# Altium footprint library CONN_HDR_2.54MM_ST.PcbLib: 159 footprints (part 10 of 13)
Each footprint in its own frame and in the unit in brackets; x right, y up, seen from the top. Pads: shape width x height; smd on the part's side, far side on the other; paste and mask are expansions set on the pad; w line width, h text height; cw(c..) or ccw(c..) is an arc to the next point about the centre after c.
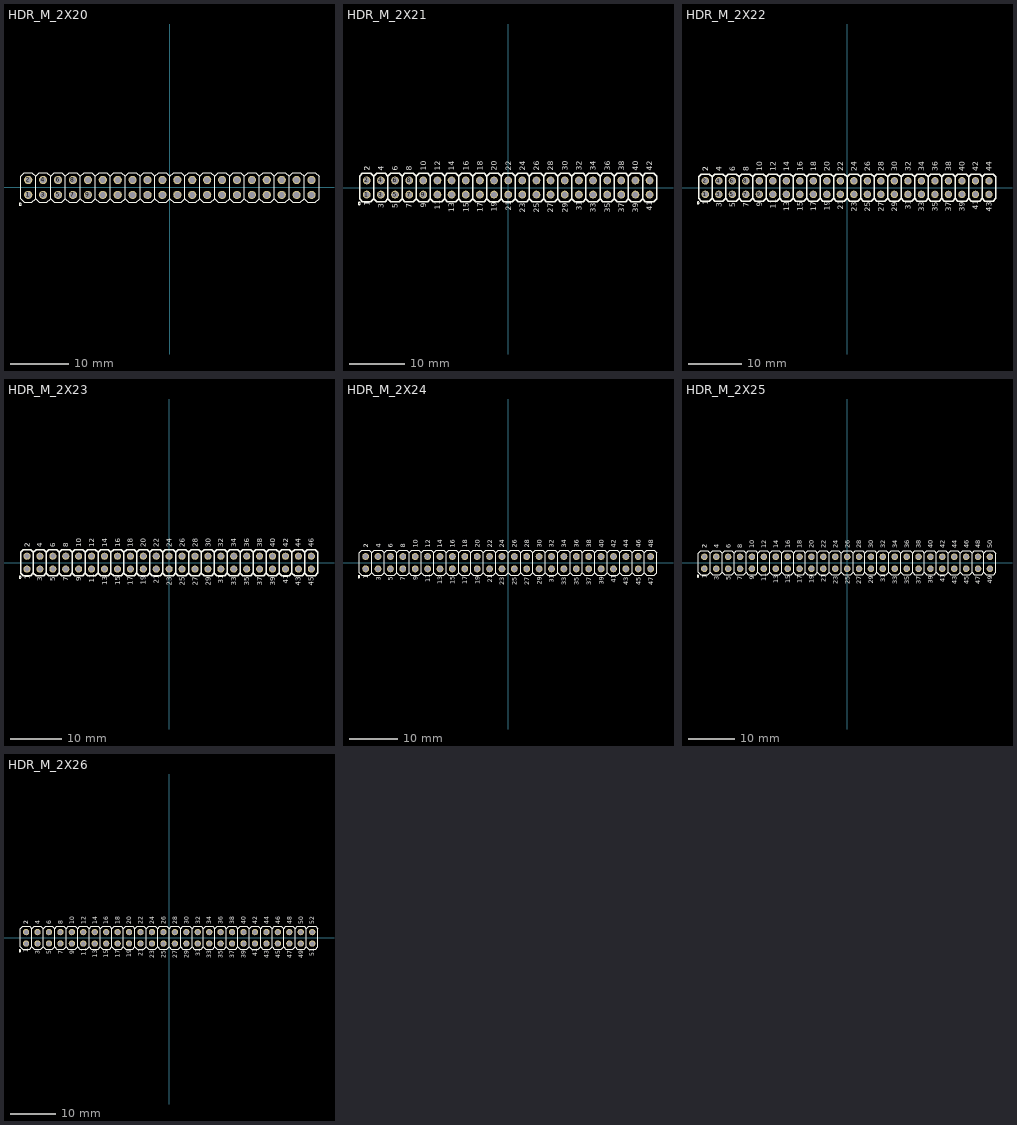
[diagram p9: the footprints below, top view; thin cyan lines are the x and y axes]

## HDR_M_2X20 [mm] "Connector; Header; 20x2 Position"
height 7.5
pads (40):
  round 1.4 / inner round 1.4 / far side oval 1.4x2.2 hole 1: 1(-24.13,-1.27) 2(-24.13,1.27) 3(-21.59,-1.27) 4(-21.59,1.27) 5(-19.05,-1.27) 6(-19.05,1.27) 7(-16.51,-1.27) 8(-16.51,1.27) 9(-13.97,-1.27) 10(-13.97,1.27) 11(-11.43,-1.27) 12(-11.43,1.27) 13(-8.89,-1.27) 14(-8.89,1.27) 15(-6.35,-1.27) 16(-6.35,1.27) 17(-3.81,-1.27) 18(-3.81,1.27) 19(-1.27,-1.27) 20(-1.27,1.27) 21(1.27,-1.27) 22(1.27,1.27) 23(3.81,-1.27) 24(3.81,1.27) 25(6.35,-1.27) 26(6.35,1.27) 27(8.89,-1.27) 28(8.89,1.27) 29(11.43,-1.27) 30(11.43,1.27) 31(13.97,-1.27) 32(13.97,1.27) 33(16.51,-1.27) 34(16.51,1.27) 35(19.05,-1.27) 36(19.05,1.27) 37(21.59,-1.27) 38(21.59,1.27) 39(24.13,-1.27) 40(24.13,1.27)
TopOverlay:
  circle w0.2: c-25.5,-2.87 r0.2
  lines w0.152: -22.86,-1.905 -23.495,-2.54 -24.765,-2.54 -25.4,-1.905 -25.4,1.905 -24.765,2.54 -23.495,2.54 -22.86,1.905 ; -22.86,-1.905 -22.225,-2.54 -20.955,-2.54 -20.32,-1.905 ; -22.86,-1.905 -22.86,1.905 ; -22.86,1.905 -22.225,2.54 -20.955,2.54 -20.32,1.905 ; -20.32,-1.905 -20.32,1.905 ; -20.32,-1.905 -19.685,-2.54 -18.415,-2.54 -17.78,-1.905 ; -20.32,1.905 -19.685,2.54 -18.415,2.54 -17.78,1.905 ; -17.78,-1.905 -17.145,-2.54 -15.875,-2.54 -15.24,-1.905 ; -17.78,-1.905 -17.78,1.905 ; -17.78,1.905 -17.145,2.54 -15.875,2.54 -15.24,1.905 ; -15.24,-1.905 -15.24,1.905 ; -15.24,-1.905 -14.605,-2.54 -13.335,-2.54 -12.7,-1.905 ; -15.24,1.905 -14.605,2.54 -13.335,2.54 -12.7,1.905 ; -12.7,-1.905 -12.065,-2.54 -10.795,-2.54 -10.16,-1.905 ; -12.7,-1.905 -12.7,1.905 ; -12.7,1.905 -12.065,2.54 -10.795,2.54 -10.16,1.905 ; -10.16,-1.905 -10.16,1.905 ; -10.16,-1.905 -9.525,-2.54 -8.255,-2.54 -7.62,-1.905 ; -10.16,1.905 -9.525,2.54 -8.255,2.54 -7.62,1.905 ; -7.62,-1.905 -7.62,1.905 ; -7.62,-1.905 -6.985,-2.54 -5.715,-2.54 -5.08,-1.905 ; -7.62,1.905 -6.985,2.54 -5.715,2.54 -5.08,1.905 ; -5.08,-1.905 -5.08,1.905 ; -5.08,-1.905 -4.445,-2.54 -3.175,-2.54 -2.54,-1.905 ; -5.08,1.905 -4.445,2.54 -3.175,2.54 -2.54,1.905 ; -2.54,-1.905 -2.54,1.905 ; -2.54,-1.905 -1.905,-2.54 -0.635,-2.54 0,-1.905 ; -2.54,1.905 -1.905,2.54 -0.635,2.54 0,1.905 ; 0,-1.905 0.635,-2.54 1.905,-2.54 2.54,-1.905 ; 0,-1.905 0,1.905 ; 0,1.905 0.635,2.54 1.905,2.54 2.54,1.905 ; 2.54,-1.905 2.54,1.905 ; 2.54,-1.905 3.175,-2.54 4.445,-2.54 5.08,-1.905 ; 2.54,1.905 3.175,2.54 4.445,2.54 5.08,1.905 ; 5.08,-1.905 5.715,-2.54 6.985,-2.54 7.62,-1.905 ; 5.08,-1.905 5.08,1.905 ; 5.08,1.905 5.715,2.54 6.985,2.54 7.62,1.905 ; 7.62,-1.905 7.62,1.905 ; 7.62,-1.905 8.255,-2.54 9.525,-2.54 10.16,-1.905 ; 7.62,1.905 8.255,2.54 9.525,2.54 10.16,1.905 ; 10.16,-1.905 10.795,-2.54 12.065,-2.54 12.7,-1.905 ; 10.16,-1.905 10.16,1.905 ; 10.16,1.905 10.795,2.54 12.065,2.54 12.7,1.905 ; 12.7,-1.905 12.7,1.905 ; 12.7,-1.905 13.335,-2.54 14.605,-2.54 15.24,-1.905 ; 12.7,1.905 13.335,2.54 14.605,2.54 15.24,1.905 ; 15.24,-1.905 15.875,-2.54 17.145,-2.54 17.78,-1.905 ; 15.24,-1.905 15.24,1.905 ; 15.24,1.905 15.875,2.54 17.145,2.54 17.78,1.905 ; 17.78,-1.905 18.415,-2.54 19.685,-2.54 20.32,-1.905 ; 17.78,-1.905 17.78,1.905 ; 17.78,1.905 18.415,2.54 19.685,2.54 20.32,1.905 ; 20.32,-1.905 20.32,1.905 ; 20.32,-1.905 20.955,-2.54 22.225,-2.54 22.86,-1.905 ; 20.32,1.905 20.955,2.54 22.225,2.54 22.86,1.905 ; 22.86,-1.905 23.495,-2.54 24.765,-2.54 25.4,-1.905 25.4,1.905 24.765,2.54 23.495,2.54 22.86,1.905 ; 22.86,-1.905 22.86,1.905
3D body "PLD-40.step": height 8.4, standoff -3, extent -25.4,-2.5 25.4,2.5

## HDR_M_2X21 [mm] "Male Header 2X21 with 2.54 mm Pitch"
pads (42):
  round 1.4 / inner round 1.4 / far side oval 1.4x2.2 hole 1: 1(-25.4,-1.27) 2(-25.4,1.27) 3(-22.86,-1.27) 4(-22.86,1.27) 5(-20.32,-1.27) 6(-20.32,1.27) 7(-17.78,-1.27) 8(-17.78,1.27) 9(-15.24,-1.27) 10(-15.24,1.27) 11(-12.7,-1.27) 12(-12.7,1.27) 13(-10.16,-1.27) 14(-10.16,1.27) 15(-7.62,-1.27) 16(-7.62,1.27) 17(-5.08,-1.27) 18(-5.08,1.27) 19(-2.54,-1.27) 20(-2.54,1.27) 21(0,-1.27) 22(0,1.27) 23(2.54,-1.27) 24(2.54,1.27) 25(5.08,-1.27) 26(5.08,1.27) 27(7.62,-1.27) 28(7.62,1.27) 29(10.16,-1.27) 30(10.16,1.27) 31(12.7,-1.27) 32(12.7,1.27) 33(15.24,-1.27) 34(15.24,1.27) 35(17.78,-1.27) 36(17.78,1.27) 37(20.32,-1.27) 38(20.32,1.27) 39(22.86,-1.27) 40(22.86,1.27) 41(25.4,-1.27) 42(25.4,1.27)
TopOverlay:
  circle w0.2: c-26.77,-2.87 r0.2
  lines w0.254: -24.13,-2.032 -23.623,-2.538 -22.098,-2.538 -21.59,-2.03 -21.59,2.034 -21.082,2.542 -19.559,2.542 -19.05,2.032 ; -24.13,2.032 -24.639,2.542 -26.162,2.542 -26.67,2.034 -26.67,-2.032 -26.163,-2.538 -24.638,-2.538 -24.13,-2.03 -24.13,2.034 -23.622,2.542 -22.099,2.542 -21.59,2.032 ; -21.59,-2.032 -21.083,-2.538 -19.558,-2.538 -19.05,-2.03 -19.05,2.034 -18.542,2.542 -17.019,2.542 -16.51,2.032 ; -19.05,-2.032 -18.543,-2.538 -17.018,-2.538 -16.51,-2.03 -16.51,2.034 -16.002,2.542 -14.479,2.542 -13.97,2.032 ; -16.51,-2.032 -16.003,-2.538 -14.478,-2.538 -13.97,-2.03 -13.97,2.034 -13.462,2.542 -11.939,2.542 -11.43,2.032 ; -13.97,-2.032 -13.463,-2.538 -11.938,-2.538 -11.43,-2.03 -11.43,2.034 -10.922,2.542 -9.399,2.542 -8.89,2.032 ; -11.43,-2.032 -10.923,-2.538 -9.398,-2.538 -8.89,-2.03 -8.89,2.034 -8.382,2.542 -6.859,2.542 -6.35,2.032 ; -8.89,-2.032 -8.383,-2.538 -6.858,-2.538 -6.35,-2.03 -6.35,2.034 -5.842,2.542 -4.319,2.542 -3.81,2.032 ; -6.35,-2.032 -5.843,-2.538 -4.318,-2.538 -3.81,-2.03 -3.81,2.034 -3.302,2.542 -1.779,2.542 -1.27,2.032 ; -3.81,-2.032 -3.303,-2.538 -1.778,-2.538 -1.27,-2.03 -1.27,2.034 -0.762,2.542 0.761,2.542 1.27,2.032 ; -1.27,-2.032 -0.763,-2.538 0.762,-2.538 1.27,-2.03 1.27,2.034 1.778,2.542 3.301,2.542 3.81,2.032 ; 1.27,-2.032 1.777,-2.538 3.302,-2.538 3.81,-2.03 3.81,2.034 4.318,2.542 5.841,2.542 6.35,2.032 ; 3.81,-2.032 4.317,-2.538 5.842,-2.538 6.35,-2.03 6.35,2.034 6.858,2.542 8.381,2.542 8.89,2.032 ; 6.35,-2.032 6.857,-2.538 8.382,-2.538 8.89,-2.03 8.89,2.034 9.398,2.542 10.921,2.542 11.43,2.032 ; 8.89,-2.032 9.397,-2.538 10.922,-2.538 11.43,-2.03 11.43,2.034 11.938,2.542 13.461,2.542 13.97,2.032 ; 11.43,-2.032 11.937,-2.538 13.462,-2.538 13.97,-2.03 13.97,2.034 14.478,2.542 16.001,2.542 16.51,2.032 ; 13.97,-2.032 14.477,-2.538 16.002,-2.538 16.51,-2.03 16.51,2.034 17.018,2.542 18.541,2.542 19.05,2.032 ; 16.51,-2.032 17.017,-2.538 18.542,-2.538 19.05,-2.03 19.05,2.034 19.558,2.542 21.081,2.542 21.59,2.032 ; 19.05,-2.032 19.557,-2.538 21.082,-2.538 21.59,-2.03 21.59,2.034 22.098,2.542 23.621,2.542 24.13,2.032 ; 21.59,-2.032 22.097,-2.538 23.622,-2.538 24.13,-2.03 24.13,2.034 24.638,2.542 26.161,2.542 26.67,2.032 ; 24.13,-2.032 24.637,-2.538 26.162,-2.538 26.67,-2.03 26.67,2.034
  text "41" at 25.908,-4.144 h1
  text "42" at 25.908,3.048 h1
  text "39" at 23.368,-4.524 h1
  text "40" at 23.368,3.048 h1
  text "37" at 20.828,-4.572 h1
  text "38" at 20.828,3.048 h1
  text "35" at 18.288,-4.572 h1
  text "36" at 18.288,3.048 h1
  text "33" at 15.748,-4.572 h1
  text "34" at 15.748,3.048 h1
  text "31" at 13.208,-4.144 h1
  text "32" at 13.208,3.048 h1
  text "29" at 10.668,-4.524 h1
  text "30" at 10.668,3.048 h1
  text "27" at 8.128,-4.572 h1
  text "28" at 8.128,3.048 h1
  text "25" at 5.588,-4.572 h1
  text "26" at 5.588,3.048 h1
  text "23" at 3.048,-4.572 h1
  text "24" at 3.048,3.048 h1
  text "21" at 0.508,-4.144 h1
  text "22" at 0.508,3.048 h1
  text "19" at -2.032,-4.367 h1
  text "20" at -2.032,3.048 h1
  text "17" at -4.572,-4.415 h1
  text "18" at -4.572,3.048 h1
  text "15" at -7.112,-4.415 h1
  text "16" at -7.112,3.048 h1
  text "13" at -9.652,-4.415 h1
  text "14" at -9.652,3.048 h1
  text "11" at -12.192,-3.986 h1
  text "12" at -12.192,3.048 h1
  text "9" at -14.732,-3.634 h1
  text "10" at -14.732,3.048 h1
  text "7" at -17.272,-3.682 h1
  text "8" at -17.272,3.048 h1
  text "5" at -19.812,-3.682 h1
  text "6" at -19.812,3.048 h1
  text "3" at -22.352,-3.682 h1
  text "4" at -22.352,3.048 h1
  text "1" at -24.892,-3.253 h1
  text "2" at -24.892,3.048 h1
  text "2" at -24.892,3.048 h1
  text "1" at -24.892,-3.253 h1
3D body "PIN.STEP": height 8.43, standoff -2.49, extent -26.67,0 -24.13,2.54
3D body "PIN_mid.STEP": height 8.43, standoff -2.49, extent 24.13,-2.54 26.67,0
3D body "PIN_mid.STEP": height 8.43, standoff -2.49, extent 21.59,-2.54 24.13,0
3D body "PIN_mid.STEP": height 8.43, standoff -2.49, extent 19.05,-2.54 21.59,0
3D body "PIN_mid.STEP": height 8.43, standoff -2.49, extent 16.51,-2.54 19.05,0
3D body "PIN_mid.STEP": height 8.43, standoff -2.49, extent 13.97,-2.54 16.51,0
3D body "PIN_mid.STEP": height 8.43, standoff -2.49, extent 11.43,-2.54 13.97,0
3D body "PIN_mid.STEP": height 8.43, standoff -2.49, extent 8.89,-2.54 11.43,0
3D body "PIN_mid.STEP": height 8.43, standoff -2.49, extent 6.35,-2.54 8.89,0
3D body "PIN_mid.STEP": height 8.43, standoff -2.49, extent 3.81,-2.54 6.35,0
3D body "PIN_mid.STEP": height 8.43, standoff -2.49, extent 1.27,-2.54 3.81,0
3D body "PIN_mid.STEP": height 8.43, standoff -2.49, extent -1.27,-2.54 1.27,0
3D body "PIN_mid.STEP": height 8.43, standoff -2.49, extent -3.81,-2.54 -1.27,0
3D body "PIN_mid.STEP": height 8.43, standoff -2.49, extent -6.35,-2.54 -3.81,0
3D body "PIN_mid.STEP": height 8.43, standoff -2.49, extent -8.89,-2.54 -6.35,0
3D body "PIN_mid.STEP": height 8.43, standoff -2.49, extent -11.43,-2.54 -8.89,0
3D body "PIN_mid.STEP": height 8.43, standoff -2.49, extent -13.97,-2.54 -11.43,0
3D body "PIN_mid.STEP": height 8.43, standoff -2.49, extent -16.51,-2.54 -13.97,0
3D body "PIN_mid.STEP": height 8.43, standoff -2.49, extent -19.05,-2.54 -16.51,0
3D body "PIN_mid.STEP": height 8.43, standoff -2.49, extent -21.59,-2.54 -19.05,0
3D body "PIN_mid.STEP": height 8.43, standoff -2.49, extent -24.13,-2.54 -21.59,0
3D body "PIN_mid.STEP": height 8.43, standoff -2.49, extent -24.13,0 -21.59,2.54
3D body "PIN_mid.STEP": height 8.43, standoff -2.49, extent 24.13,0 26.67,2.54
3D body "PIN_mid.STEP": height 8.43, standoff -2.49, extent 21.59,0 24.13,2.54
3D body "PIN_mid.STEP": height 8.43, standoff -2.49, extent 19.05,0 21.59,2.54
3D body "PIN_mid.STEP": height 8.43, standoff -2.49, extent 16.51,0 19.05,2.54
3D body "PIN_mid.STEP": height 8.43, standoff -2.49, extent 13.97,0 16.51,2.54
3D body "PIN_mid.STEP": height 8.43, standoff -2.49, extent 11.43,0 13.97,2.54
3D body "PIN_mid.STEP": height 8.43, standoff -2.49, extent 8.89,0 11.43,2.54
3D body "PIN_mid.STEP": height 8.43, standoff -2.49, extent 6.35,0 8.89,2.54
3D body "PIN_mid.STEP": height 8.43, standoff -2.49, extent 3.81,0 6.35,2.54
3D body "PIN_mid.STEP": height 8.43, standoff -2.49, extent 1.27,0 3.81,2.54
3D body "PIN_mid.STEP": height 8.43, standoff -2.49, extent -1.27,0 1.27,2.54
3D body "PIN_mid.STEP": height 8.43, standoff -2.49, extent -3.81,0 -1.27,2.54
3D body "PIN_mid.STEP": height 8.43, standoff -2.49, extent -6.35,0 -3.81,2.54
3D body "PIN_mid.STEP": height 8.43, standoff -2.49, extent -8.89,0 -6.35,2.54
3D body "PIN_mid.STEP": height 8.43, standoff -2.49, extent -11.43,0 -8.89,2.54
3D body "PIN_mid.STEP": height 8.43, standoff -2.49, extent -13.97,0 -11.43,2.54
3D body "PIN_mid.STEP": height 8.43, standoff -2.49, extent -16.51,0 -13.97,2.54
3D body "PIN_mid.STEP": height 8.43, standoff -2.49, extent -19.05,0 -16.51,2.54
3D body "PIN_mid.STEP": height 8.43, standoff -2.49, extent -21.59,0 -19.05,2.54
3D body "PIN.STEP": height 8.43, standoff -2.49, extent -26.67,-2.54 -24.13,0

## HDR_M_2X22 [mm] "Male Header 2X22 with 2.54 mm Pitch"
pads (44):
  round 1.4 / inner round 1.4 / far side oval 1.4x2.2 hole 1: 1(-26.67,-1.27) 2(-26.67,1.27) 3(-24.13,-1.27) 4(-24.13,1.27) 5(-21.59,-1.27) 6(-21.59,1.27) 7(-19.05,-1.27) 8(-19.05,1.27) 9(-16.51,-1.27) 10(-16.51,1.27) 11(-13.97,-1.27) 12(-13.97,1.27) 13(-11.43,-1.27) 14(-11.43,1.27) 15(-8.89,-1.27) 16(-8.89,1.27) 17(-6.35,-1.27) 18(-6.35,1.27) 19(-3.81,-1.27) 20(-3.81,1.27) 21(-1.27,-1.27) 22(-1.27,1.27) 23(1.27,-1.27) 24(1.27,1.27) 25(3.81,-1.27) 26(3.81,1.27) 27(6.35,-1.27) 28(6.35,1.27) 29(8.89,-1.27) 30(8.89,1.27) 31(11.43,-1.27) 32(11.43,1.27) 33(13.97,-1.27) 34(13.97,1.27) 35(16.51,-1.27) 36(16.51,1.27) 37(19.05,-1.27) 38(19.05,1.27) 39(21.59,-1.27) 40(21.59,1.27) 41(24.13,-1.27) 42(24.13,1.27) 43(26.67,-1.27) 44(26.67,1.27)
TopOverlay:
  drawing of 156 lines, arcs and shapes, not listed
  text "43" at 27.178,-4.572 h1
  text "44" at 27.178,3.048 h1
  text "41" at 24.638,-4.144 h1
  text "42" at 24.638,3.048 h1
  text "39" at 22.098,-4.524 h1
  text "40" at 22.098,3.048 h1
  text "37" at 19.558,-4.572 h1
  text "38" at 19.558,3.048 h1
  text "35" at 17.018,-4.572 h1
  text "36" at 17.018,3.048 h1
  text "33" at 14.478,-4.572 h1
  text "34" at 14.478,3.048 h1
  text "31" at 11.938,-4.144 h1
  text "32" at 11.938,3.048 h1
  text "29" at 9.398,-4.524 h1
  text "30" at 9.398,3.048 h1
  text "27" at 6.858,-4.572 h1
  text "28" at 6.858,3.048 h1
  text "25" at 4.318,-4.572 h1
  text "26" at 4.318,3.048 h1
  text "23" at 1.778,-4.572 h1
  text "24" at 1.778,3.048 h1
  text "21" at -0.762,-4.144 h1
  text "22" at -0.762,3.048 h1
  text "19" at -3.302,-4.367 h1
  text "20" at -3.302,3.048 h1
  text "17" at -5.842,-4.415 h1
  text "18" at -5.842,3.048 h1
  text "15" at -8.382,-4.415 h1
  text "16" at -8.382,3.048 h1
  text "13" at -10.922,-4.415 h1
  text "14" at -10.922,3.048 h1
  text "11" at -13.462,-3.986 h1
  text "12" at -13.462,3.048 h1
  text "9" at -16.002,-3.634 h1
  text "10" at -16.002,3.048 h1
  text "7" at -18.542,-3.682 h1
  text "8" at -18.542,3.048 h1
  text "5" at -21.082,-3.682 h1
  text "6" at -21.082,3.048 h1
  text "3" at -23.622,-3.682 h1
  text "4" at -23.622,3.048 h1
  text "1" at -26.162,-3.253 h1
  text "2" at -26.162,3.048 h1
  text "2" at -26.162,3.048 h1
  text "1" at -26.162,-3.253 h1
3D body "PIN.STEP": height 8.43, standoff -2.49, extent 25.4,-2.54 27.94,0
3D body "PIN.STEP": height 8.43, standoff -2.49, extent 25.4,0 27.94,2.54
3D body "PIN.STEP": height 8.43, standoff -2.49, extent -27.94,0 -25.4,2.54
3D body "PIN_mid.STEP": height 8.43, standoff -2.49, extent 22.86,-2.54 25.4,0
3D body "PIN_mid.STEP": height 8.43, standoff -2.49, extent 20.32,-2.54 22.86,0
3D body "PIN_mid.STEP": height 8.43, standoff -2.49, extent 17.78,-2.54 20.32,0
3D body "PIN_mid.STEP": height 8.43, standoff -2.49, extent 15.24,-2.54 17.78,0
3D body "PIN_mid.STEP": height 8.43, standoff -2.49, extent 12.7,-2.54 15.24,0
3D body "PIN_mid.STEP": height 8.43, standoff -2.49, extent 10.16,-2.54 12.7,0
3D body "PIN_mid.STEP": height 8.43, standoff -2.49, extent 7.62,-2.54 10.16,0
3D body "PIN_mid.STEP": height 8.43, standoff -2.49, extent 5.08,-2.54 7.62,0
3D body "PIN_mid.STEP": height 8.43, standoff -2.49, extent 2.54,-2.54 5.08,0
3D body "PIN_mid.STEP": height 8.43, standoff -2.49, extent 0,-2.54 2.54,0
3D body "PIN_mid.STEP": height 8.43, standoff -2.49, extent -2.54,-2.54 0,0
3D body "PIN_mid.STEP": height 8.43, standoff -2.49, extent -5.08,-2.54 -2.54,0
3D body "PIN_mid.STEP": height 8.43, standoff -2.49, extent -7.62,-2.54 -5.08,0
3D body "PIN_mid.STEP": height 8.43, standoff -2.49, extent -10.16,-2.54 -7.62,0
3D body "PIN_mid.STEP": height 8.43, standoff -2.49, extent -12.7,-2.54 -10.16,0
3D body "PIN_mid.STEP": height 8.43, standoff -2.49, extent -15.24,-2.54 -12.7,0
3D body "PIN_mid.STEP": height 8.43, standoff -2.49, extent -17.78,-2.54 -15.24,0
3D body "PIN_mid.STEP": height 8.43, standoff -2.49, extent -20.32,-2.54 -17.78,0
3D body "PIN_mid.STEP": height 8.43, standoff -2.49, extent -22.86,-2.54 -20.32,0
3D body "PIN_mid.STEP": height 8.43, standoff -2.49, extent -25.4,-2.54 -22.86,0
3D body "PIN_mid.STEP": height 8.43, standoff -2.49, extent -25.4,0 -22.86,2.54
3D body "PIN_mid.STEP": height 8.43, standoff -2.49, extent 22.86,0 25.4,2.54
3D body "PIN_mid.STEP": height 8.43, standoff -2.49, extent 20.32,0 22.86,2.54
3D body "PIN_mid.STEP": height 8.43, standoff -2.49, extent 17.78,0 20.32,2.54
3D body "PIN_mid.STEP": height 8.43, standoff -2.49, extent 15.24,0 17.78,2.54
3D body "PIN_mid.STEP": height 8.43, standoff -2.49, extent 12.7,0 15.24,2.54
3D body "PIN_mid.STEP": height 8.43, standoff -2.49, extent 10.16,0 12.7,2.54
3D body "PIN_mid.STEP": height 8.43, standoff -2.49, extent 7.62,0 10.16,2.54
3D body "PIN_mid.STEP": height 8.43, standoff -2.49, extent 5.08,0 7.62,2.54
3D body "PIN_mid.STEP": height 8.43, standoff -2.49, extent 2.54,0 5.08,2.54
3D body "PIN_mid.STEP": height 8.43, standoff -2.49, extent 0,0 2.54,2.54
3D body "PIN_mid.STEP": height 8.43, standoff -2.49, extent -2.54,0 0,2.54
3D body "PIN_mid.STEP": height 8.43, standoff -2.49, extent -5.08,0 -2.54,2.54
3D body "PIN_mid.STEP": height 8.43, standoff -2.49, extent -7.62,0 -5.08,2.54
3D body "PIN_mid.STEP": height 8.43, standoff -2.49, extent -10.16,0 -7.62,2.54
3D body "PIN_mid.STEP": height 8.43, standoff -2.49, extent -12.7,0 -10.16,2.54
3D body "PIN_mid.STEP": height 8.43, standoff -2.49, extent -15.24,0 -12.7,2.54
3D body "PIN_mid.STEP": height 8.43, standoff -2.49, extent -17.78,0 -15.24,2.54
3D body "PIN_mid.STEP": height 8.43, standoff -2.49, extent -20.32,0 -17.78,2.54
3D body "PIN_mid.STEP": height 8.43, standoff -2.49, extent -22.86,0 -20.32,2.54
3D body "PIN.STEP": height 8.43, standoff -2.49, extent -27.94,-2.54 -25.4,0

## HDR_M_2X23 [mm] "Male Header 2X23 with 2.54 mm Pitch"
pads (46):
  round 1.4 / inner round 1.4 / far side oval 1.4x2.2 hole 1: 1(-27.94,-1.27) 2(-27.94,1.27) 3(-25.4,-1.27) 4(-25.4,1.27) 5(-22.86,-1.27) 6(-22.86,1.27) 7(-20.32,-1.27) 8(-20.32,1.27) 9(-17.78,-1.27) 10(-17.78,1.27) 11(-15.24,-1.27) 12(-15.24,1.27) 13(-12.7,-1.27) 14(-12.7,1.27) 15(-10.16,-1.27) 16(-10.16,1.27) 17(-7.62,-1.27) 18(-7.62,1.27) 19(-5.08,-1.27) 20(-5.08,1.27) 21(-2.54,-1.27) 22(-2.54,1.27) 23(0,-1.27) 24(0,1.27) 25(2.54,-1.27) 26(2.54,1.27) 27(5.08,-1.27) 28(5.08,1.27) 29(7.62,-1.27) 30(7.62,1.27) 31(10.16,-1.27) 32(10.16,1.27) 33(12.7,-1.27) 34(12.7,1.27) 35(15.24,-1.27) 36(15.24,1.27) 37(17.78,-1.27) 38(17.78,1.27) 39(20.32,-1.27) 40(20.32,1.27) 41(22.86,-1.27) 42(22.86,1.27) 43(25.4,-1.27) 44(25.4,1.27) 45(27.94,-1.27) 46(27.94,1.27)
TopOverlay:
  drawing of 163 lines, arcs and shapes, not listed
  text "1" at -27.432,-3.253 h1
  text "2" at -27.432,3.048 h1
  text "2" at -27.432,3.048 h1
  text "1" at -27.432,-3.253 h1
  text "4" at -24.892,3.048 h1
  text "3" at -24.892,-3.682 h1
  text "6" at -22.352,3.048 h1
  text "5" at -22.352,-3.682 h1
  text "8" at -19.812,3.048 h1
  text "7" at -19.812,-3.682 h1
  text "10" at -17.272,3.048 h1
  text "9" at -17.272,-3.634 h1
  text "12" at -14.732,3.048 h1
  text "11" at -14.732,-3.986 h1
  text "14" at -12.192,3.048 h1
  text "13" at -12.192,-4.415 h1
  text "16" at -9.652,3.048 h1
  text "15" at -9.652,-4.415 h1
  text "18" at -7.112,3.048 h1
  text "17" at -7.112,-4.415 h1
  text "20" at -4.572,3.048 h1
  text "19" at -4.572,-4.367 h1
  text "22" at -2.032,3.048 h1
  text "21" at -2.032,-4.144 h1
  text "24" at 0.508,3.048 h1
  text "23" at 0.508,-4.572 h1
  text "26" at 3.048,3.048 h1
  text "25" at 3.048,-4.572 h1
  text "28" at 5.588,3.048 h1
  text "27" at 5.588,-4.572 h1
  text "30" at 8.128,3.048 h1
  text "29" at 8.128,-4.524 h1
  text "32" at 10.668,3.048 h1
  text "31" at 10.668,-4.144 h1
  text "34" at 13.208,3.048 h1
  text "33" at 13.208,-4.572 h1
  text "36" at 15.748,3.048 h1
  text "35" at 15.748,-4.572 h1
  text "38" at 18.288,3.048 h1
  text "37" at 18.288,-4.572 h1
  text "40" at 20.828,3.048 h1
  text "39" at 20.828,-4.524 h1
  text "42" at 23.368,3.048 h1
  text "41" at 23.368,-4.144 h1
  text "44" at 25.908,3.048 h1
  text "43" at 25.908,-4.572 h1
  text "46" at 28.448,3.048 h1
  text "45" at 28.448,-4.572 h1
3D body "PIN.STEP": height 8.43, standoff -2.49, extent -29.21,0 -26.67,2.54
3D body "PIN_mid.STEP": height 8.43, standoff -2.49, extent 26.67,-2.54 29.21,0
3D body "PIN_mid.STEP": height 8.43, standoff -2.49, extent 24.13,-2.54 26.67,0
3D body "PIN_mid.STEP": height 8.43, standoff -2.49, extent 21.59,-2.54 24.13,0
3D body "PIN_mid.STEP": height 8.43, standoff -2.49, extent 19.05,-2.54 21.59,0
3D body "PIN_mid.STEP": height 8.43, standoff -2.49, extent 16.51,-2.54 19.05,0
3D body "PIN_mid.STEP": height 8.43, standoff -2.49, extent 13.97,-2.54 16.51,0
3D body "PIN_mid.STEP": height 8.43, standoff -2.49, extent 11.43,-2.54 13.97,0
3D body "PIN_mid.STEP": height 8.43, standoff -2.49, extent 8.89,-2.54 11.43,0
3D body "PIN_mid.STEP": height 8.43, standoff -2.49, extent 6.35,-2.54 8.89,0
3D body "PIN_mid.STEP": height 8.43, standoff -2.49, extent 3.81,-2.54 6.35,0
3D body "PIN_mid.STEP": height 8.43, standoff -2.49, extent 1.27,-2.54 3.81,0
3D body "PIN_mid.STEP": height 8.43, standoff -2.49, extent -1.27,-2.54 1.27,0
3D body "PIN_mid.STEP": height 8.43, standoff -2.49, extent -3.81,-2.54 -1.27,0
3D body "PIN_mid.STEP": height 8.43, standoff -2.49, extent -6.35,-2.54 -3.81,0
3D body "PIN_mid.STEP": height 8.43, standoff -2.49, extent -8.89,-2.54 -6.35,0
3D body "PIN_mid.STEP": height 8.43, standoff -2.49, extent -11.43,-2.54 -8.89,0
3D body "PIN_mid.STEP": height 8.43, standoff -2.49, extent -13.97,-2.54 -11.43,0
3D body "PIN_mid.STEP": height 8.43, standoff -2.49, extent -16.51,-2.54 -13.97,0
3D body "PIN_mid.STEP": height 8.43, standoff -2.49, extent -19.05,-2.54 -16.51,0
3D body "PIN_mid.STEP": height 8.43, standoff -2.49, extent -21.59,-2.54 -19.05,0
3D body "PIN_mid.STEP": height 8.43, standoff -2.49, extent -24.13,-2.54 -21.59,0
3D body "PIN_mid.STEP": height 8.43, standoff -2.49, extent -26.67,-2.54 -24.13,0
3D body "PIN_mid.STEP": height 8.43, standoff -2.49, extent -26.67,0 -24.13,2.54
3D body "PIN_mid.STEP": height 8.43, standoff -2.49, extent 26.67,0 29.21,2.54
3D body "PIN_mid.STEP": height 8.43, standoff -2.49, extent 24.13,0 26.67,2.54
3D body "PIN_mid.STEP": height 8.43, standoff -2.49, extent 21.59,0 24.13,2.54
3D body "PIN_mid.STEP": height 8.43, standoff -2.49, extent 19.05,0 21.59,2.54
3D body "PIN_mid.STEP": height 8.43, standoff -2.49, extent 16.51,0 19.05,2.54
3D body "PIN_mid.STEP": height 8.43, standoff -2.49, extent 13.97,0 16.51,2.54
3D body "PIN_mid.STEP": height 8.43, standoff -2.49, extent 11.43,0 13.97,2.54
3D body "PIN_mid.STEP": height 8.43, standoff -2.49, extent 8.89,0 11.43,2.54
3D body "PIN_mid.STEP": height 8.43, standoff -2.49, extent 6.35,0 8.89,2.54
3D body "PIN_mid.STEP": height 8.43, standoff -2.49, extent 3.81,0 6.35,2.54
3D body "PIN_mid.STEP": height 8.43, standoff -2.49, extent 1.27,0 3.81,2.54
3D body "PIN_mid.STEP": height 8.43, standoff -2.49, extent -1.27,0 1.27,2.54
3D body "PIN_mid.STEP": height 8.43, standoff -2.49, extent -3.81,0 -1.27,2.54
3D body "PIN_mid.STEP": height 8.43, standoff -2.49, extent -6.35,0 -3.81,2.54
3D body "PIN_mid.STEP": height 8.43, standoff -2.49, extent -8.89,0 -6.35,2.54
3D body "PIN_mid.STEP": height 8.43, standoff -2.49, extent -11.43,0 -8.89,2.54
3D body "PIN_mid.STEP": height 8.43, standoff -2.49, extent -13.97,0 -11.43,2.54
3D body "PIN_mid.STEP": height 8.43, standoff -2.49, extent -16.51,0 -13.97,2.54
3D body "PIN_mid.STEP": height 8.43, standoff -2.49, extent -19.05,0 -16.51,2.54
3D body "PIN_mid.STEP": height 8.43, standoff -2.49, extent -21.59,0 -19.05,2.54
3D body "PIN_mid.STEP": height 8.43, standoff -2.49, extent -24.13,0 -21.59,2.54
3D body "PIN.STEP": height 8.43, standoff -2.49, extent -29.21,-2.54 -26.67,0

## HDR_M_2X24 [mm] "Male Header 2X24 with 2.54 mm Pitch"
pads (48):
  round 1.4 / inner round 1.4 / far side oval 1.4x2.2 hole 1: 1(-29.21,-1.27) 2(-29.21,1.27) 3(-26.67,-1.27) 4(-26.67,1.27) 5(-24.13,-1.27) 6(-24.13,1.27) 7(-21.59,-1.27) 8(-21.59,1.27) 9(-19.05,-1.27) 10(-19.05,1.27) 11(-16.51,-1.27) 12(-16.51,1.27) 13(-13.97,-1.27) 14(-13.97,1.27) 15(-11.43,-1.27) 16(-11.43,1.27) 17(-8.89,-1.27) 18(-8.89,1.27) 19(-6.35,-1.27) 20(-6.35,1.27) 21(-3.81,-1.27) 22(-3.81,1.27) 23(-1.27,-1.27) 24(-1.27,1.27) 25(1.27,-1.27) 26(1.27,1.27) 27(3.81,-1.27) 28(3.81,1.27) 29(6.35,-1.27) 30(6.35,1.27) 31(8.89,-1.27) 32(8.89,1.27) 33(11.43,-1.27) 34(11.43,1.27) 35(13.97,-1.27) 36(13.97,1.27) 37(16.51,-1.27) 38(16.51,1.27) 39(19.05,-1.27) 40(19.05,1.27) 41(21.59,-1.27) 42(21.59,1.27) 43(24.13,-1.27) 44(24.13,1.27) 45(26.67,-1.27) 46(26.67,1.27) 47(29.21,-1.27) 48(29.21,1.27)
TopOverlay:
  drawing of 170 lines, arcs and shapes, not listed
  text "1" at -28.702,-3.253 h1
  text "2" at -28.702,3.048 h1
  text "2" at -28.702,3.048 h1
  text "1" at -28.702,-3.253 h1
  text "4" at -26.162,3.048 h1
  text "3" at -26.162,-3.682 h1
  text "6" at -23.622,3.048 h1
  text "5" at -23.622,-3.682 h1
  text "8" at -21.082,3.048 h1
  text "7" at -21.082,-3.682 h1
  text "10" at -18.542,3.048 h1
  text "9" at -18.542,-3.634 h1
  text "12" at -16.002,3.048 h1
  text "11" at -16.002,-3.986 h1
  text "14" at -13.462,3.048 h1
  text "13" at -13.462,-4.415 h1
  text "16" at -10.922,3.048 h1
  text "15" at -10.922,-4.415 h1
  text "18" at -8.382,3.048 h1
  text "17" at -8.382,-4.415 h1
  text "20" at -5.842,3.048 h1
  text "19" at -5.842,-4.367 h1
  text "22" at -3.302,3.048 h1
  text "21" at -3.302,-4.144 h1
  text "24" at -0.762,3.048 h1
  text "23" at -0.762,-4.572 h1
  text "26" at 1.778,3.048 h1
  text "25" at 1.778,-4.572 h1
  text "28" at 4.318,3.048 h1
  text "27" at 4.318,-4.572 h1
  text "30" at 6.858,3.048 h1
  text "29" at 6.858,-4.524 h1
  text "32" at 9.398,3.048 h1
  text "31" at 9.398,-4.144 h1
  text "34" at 11.938,3.048 h1
  text "33" at 11.938,-4.572 h1
  text "36" at 14.478,3.048 h1
  text "35" at 14.478,-4.572 h1
  text "38" at 17.018,3.048 h1
  text "37" at 17.018,-4.572 h1
  text "40" at 19.558,3.048 h1
  text "39" at 19.558,-4.524 h1
  text "42" at 22.098,3.048 h1
  text "41" at 22.098,-4.144 h1
  text "44" at 24.638,3.048 h1
  text "43" at 24.638,-4.572 h1
  text "46" at 27.178,3.048 h1
  text "45" at 27.178,-4.572 h1
  text "48" at 29.718,3.048 h1
  text "47" at 29.718,-4.572 h1
3D body "PIN.STEP": height 8.43, standoff -2.49, extent 27.94,-2.54 30.48,0
3D body "PIN.STEP": height 8.43, standoff -2.49, extent 27.94,0 30.48,2.54
3D body "PIN.STEP": height 8.43, standoff -2.49, extent -30.48,0 -27.94,2.54
3D body "PIN_mid.STEP": height 8.43, standoff -2.49, extent 25.4,-2.54 27.94,0
3D body "PIN_mid.STEP": height 8.43, standoff -2.49, extent 22.86,-2.54 25.4,0
3D body "PIN_mid.STEP": height 8.43, standoff -2.49, extent 20.32,-2.54 22.86,0
3D body "PIN_mid.STEP": height 8.43, standoff -2.49, extent 17.78,-2.54 20.32,0
3D body "PIN_mid.STEP": height 8.43, standoff -2.49, extent 15.24,-2.54 17.78,0
3D body "PIN_mid.STEP": height 8.43, standoff -2.49, extent 12.7,-2.54 15.24,0
3D body "PIN_mid.STEP": height 8.43, standoff -2.49, extent 10.16,-2.54 12.7,0
3D body "PIN_mid.STEP": height 8.43, standoff -2.49, extent 7.62,-2.54 10.16,0
3D body "PIN_mid.STEP": height 8.43, standoff -2.49, extent 5.08,-2.54 7.62,0
3D body "PIN_mid.STEP": height 8.43, standoff -2.49, extent 2.54,-2.54 5.08,0
3D body "PIN_mid.STEP": height 8.43, standoff -2.49, extent 0,-2.54 2.54,0
3D body "PIN_mid.STEP": height 8.43, standoff -2.49, extent -2.54,-2.54 0,0
3D body "PIN_mid.STEP": height 8.43, standoff -2.49, extent -5.08,-2.54 -2.54,0
3D body "PIN_mid.STEP": height 8.43, standoff -2.49, extent -7.62,-2.54 -5.08,0
3D body "PIN_mid.STEP": height 8.43, standoff -2.49, extent -10.16,-2.54 -7.62,0
3D body "PIN_mid.STEP": height 8.43, standoff -2.49, extent -12.7,-2.54 -10.16,0
3D body "PIN_mid.STEP": height 8.43, standoff -2.49, extent -15.24,-2.54 -12.7,0
3D body "PIN_mid.STEP": height 8.43, standoff -2.49, extent -17.78,-2.54 -15.24,0
3D body "PIN_mid.STEP": height 8.43, standoff -2.49, extent -20.32,-2.54 -17.78,0
3D body "PIN_mid.STEP": height 8.43, standoff -2.49, extent -22.86,-2.54 -20.32,0
3D body "PIN_mid.STEP": height 8.43, standoff -2.49, extent -25.4,-2.54 -22.86,0
3D body "PIN_mid.STEP": height 8.43, standoff -2.49, extent -27.94,-2.54 -25.4,0
3D body "PIN_mid.STEP": height 8.43, standoff -2.49, extent -27.94,0 -25.4,2.54
3D body "PIN_mid.STEP": height 8.43, standoff -2.49, extent 25.4,0 27.94,2.54
3D body "PIN_mid.STEP": height 8.43, standoff -2.49, extent 22.86,0 25.4,2.54
3D body "PIN_mid.STEP": height 8.43, standoff -2.49, extent 20.32,0 22.86,2.54
3D body "PIN_mid.STEP": height 8.43, standoff -2.49, extent 17.78,0 20.32,2.54
3D body "PIN_mid.STEP": height 8.43, standoff -2.49, extent 15.24,0 17.78,2.54
3D body "PIN_mid.STEP": height 8.43, standoff -2.49, extent 12.7,0 15.24,2.54
3D body "PIN_mid.STEP": height 8.43, standoff -2.49, extent 10.16,0 12.7,2.54
3D body "PIN_mid.STEP": height 8.43, standoff -2.49, extent 7.62,0 10.16,2.54
3D body "PIN_mid.STEP": height 8.43, standoff -2.49, extent 5.08,0 7.62,2.54
3D body "PIN_mid.STEP": height 8.43, standoff -2.49, extent 2.54,0 5.08,2.54
3D body "PIN_mid.STEP": height 8.43, standoff -2.49, extent 0,0 2.54,2.54
3D body "PIN_mid.STEP": height 8.43, standoff -2.49, extent -2.54,0 0,2.54
3D body "PIN_mid.STEP": height 8.43, standoff -2.49, extent -5.08,0 -2.54,2.54
3D body "PIN_mid.STEP": height 8.43, standoff -2.49, extent -7.62,0 -5.08,2.54
3D body "PIN_mid.STEP": height 8.43, standoff -2.49, extent -10.16,0 -7.62,2.54
3D body "PIN_mid.STEP": height 8.43, standoff -2.49, extent -12.7,0 -10.16,2.54
3D body "PIN_mid.STEP": height 8.43, standoff -2.49, extent -15.24,0 -12.7,2.54
3D body "PIN_mid.STEP": height 8.43, standoff -2.49, extent -17.78,0 -15.24,2.54
3D body "PIN_mid.STEP": height 8.43, standoff -2.49, extent -20.32,0 -17.78,2.54
3D body "PIN_mid.STEP": height 8.43, standoff -2.49, extent -22.86,0 -20.32,2.54
3D body "PIN_mid.STEP": height 8.43, standoff -2.49, extent -25.4,0 -22.86,2.54
3D body "PIN.STEP": height 8.43, standoff -2.49, extent -30.48,-2.54 -27.94,0

## HDR_M_2X25 [mm] "Male Header 2X25 with 2.54 mm Pitch"
pads (50):
  round 1.4 / inner round 1.4 / far side oval 1.4x2.2 hole 1: 1(-30.48,-1.27) 2(-30.48,1.27) 3(-27.94,-1.27) 4(-27.94,1.27) 5(-25.4,-1.27) 6(-25.4,1.27) 7(-22.86,-1.27) 8(-22.86,1.27) 9(-20.32,-1.27) 10(-20.32,1.27) 11(-17.78,-1.27) 12(-17.78,1.27) 13(-15.24,-1.27) 14(-15.24,1.27) 15(-12.7,-1.27) 16(-12.7,1.27) 17(-10.16,-1.27) 18(-10.16,1.27) 19(-7.62,-1.27) 20(-7.62,1.27) 21(-5.08,-1.27) 22(-5.08,1.27) 23(-2.54,-1.27) 24(-2.54,1.27) 25(0,-1.27) 26(0,1.27) 27(2.54,-1.27) 28(2.54,1.27) 29(5.08,-1.27) 30(5.08,1.27) 31(7.62,-1.27) 32(7.62,1.27) 33(10.16,-1.27) 34(10.16,1.27) 35(12.7,-1.27) 36(12.7,1.27) 37(15.24,-1.27) 38(15.24,1.27) 39(17.78,-1.27) 40(17.78,1.27) 41(20.32,-1.27) 42(20.32,1.27) 43(22.86,-1.27) 44(22.86,1.27) 45(25.4,-1.27) 46(25.4,1.27) 47(27.94,-1.27) 48(27.94,1.27) 49(30.48,-1.27) 50(30.48,1.27)
TopOverlay:
  drawing of 177 lines, arcs and shapes, not listed
  text "49" at 30.988,-4.524 h1
  text "50" at 30.988,3.048 h1
  text "47" at 28.448,-4.572 h1
  text "48" at 28.448,3.048 h1
  text "45" at 25.908,-4.572 h1
  text "46" at 25.908,3.048 h1
  text "43" at 23.368,-4.572 h1
  text "44" at 23.368,3.048 h1
  text "41" at 20.828,-4.144 h1
  text "42" at 20.828,3.048 h1
  text "39" at 18.288,-4.524 h1
  text "40" at 18.288,3.048 h1
  text "37" at 15.748,-4.572 h1
  text "38" at 15.748,3.048 h1
  text "35" at 13.208,-4.572 h1
  text "36" at 13.208,3.048 h1
  text "33" at 10.668,-4.572 h1
  text "34" at 10.668,3.048 h1
  text "31" at 8.128,-4.144 h1
  text "32" at 8.128,3.048 h1
  text "29" at 5.588,-4.524 h1
  text "30" at 5.588,3.048 h1
  text "27" at 3.048,-4.572 h1
  text "28" at 3.048,3.048 h1
  text "25" at 0.508,-4.572 h1
  text "26" at 0.508,3.048 h1
  text "23" at -2.032,-4.572 h1
  text "24" at -2.032,3.048 h1
  text "21" at -4.572,-4.144 h1
  text "22" at -4.572,3.048 h1
  text "19" at -7.112,-4.367 h1
  text "20" at -7.112,3.048 h1
  text "17" at -9.652,-4.415 h1
  text "18" at -9.652,3.048 h1
  text "15" at -12.192,-4.415 h1
  text "16" at -12.192,3.048 h1
  text "13" at -14.732,-4.415 h1
  text "14" at -14.732,3.048 h1
  text "11" at -17.272,-3.986 h1
  text "12" at -17.272,3.048 h1
  text "9" at -19.812,-3.634 h1
  text "10" at -19.812,3.048 h1
  text "7" at -22.352,-3.682 h1
  text "8" at -22.352,3.048 h1
  text "5" at -24.892,-3.682 h1
  text "6" at -24.892,3.048 h1
  text "3" at -27.432,-3.682 h1
  text "4" at -27.432,3.048 h1
  text "1" at -29.972,-3.253 h1
  text "2" at -29.972,3.048 h1
  text "2" at -29.972,3.048 h1
  text "1" at -29.972,-3.253 h1
3D body "PIN.STEP": height 8.43, standoff -2.49, extent -31.75,-2.54 -29.21,0
3D body "PIN_mid.STEP": height 8.43, standoff -2.49, extent -26.67,0 -24.13,2.54
3D body "PIN_mid.STEP": height 8.43, standoff -2.49, extent -24.13,0 -21.59,2.54
3D body "PIN_mid.STEP": height 8.43, standoff -2.49, extent -21.59,0 -19.05,2.54
3D body "PIN_mid.STEP": height 8.43, standoff -2.49, extent -19.05,0 -16.51,2.54
3D body "PIN_mid.STEP": height 8.43, standoff -2.49, extent -16.51,0 -13.97,2.54
3D body "PIN_mid.STEP": height 8.43, standoff -2.49, extent -13.97,0 -11.43,2.54
3D body "PIN_mid.STEP": height 8.43, standoff -2.49, extent -11.43,0 -8.89,2.54
3D body "PIN_mid.STEP": height 8.43, standoff -2.49, extent -8.89,0 -6.35,2.54
3D body "PIN_mid.STEP": height 8.43, standoff -2.49, extent -6.35,0 -3.81,2.54
3D body "PIN_mid.STEP": height 8.43, standoff -2.49, extent -3.81,0 -1.27,2.54
3D body "PIN_mid.STEP": height 8.43, standoff -2.49, extent -1.27,0 1.27,2.54
3D body "PIN_mid.STEP": height 8.43, standoff -2.49, extent 1.27,0 3.81,2.54
3D body "PIN_mid.STEP": height 8.43, standoff -2.49, extent 3.81,0 6.35,2.54
3D body "PIN_mid.STEP": height 8.43, standoff -2.49, extent 6.35,0 8.89,2.54
3D body "PIN_mid.STEP": height 8.43, standoff -2.49, extent 8.89,0 11.43,2.54
3D body "PIN_mid.STEP": height 8.43, standoff -2.49, extent 11.43,0 13.97,2.54
3D body "PIN_mid.STEP": height 8.43, standoff -2.49, extent 13.97,0 16.51,2.54
3D body "PIN_mid.STEP": height 8.43, standoff -2.49, extent 16.51,0 19.05,2.54
3D body "PIN_mid.STEP": height 8.43, standoff -2.49, extent 19.05,0 21.59,2.54
3D body "PIN_mid.STEP": height 8.43, standoff -2.49, extent 21.59,0 24.13,2.54
3D body "PIN_mid.STEP": height 8.43, standoff -2.49, extent 24.13,0 26.67,2.54
3D body "PIN_mid.STEP": height 8.43, standoff -2.49, extent 26.67,0 29.21,2.54
3D body "PIN_mid.STEP": height 8.43, standoff -2.49, extent -29.21,0 -26.67,2.54
3D body "PIN_mid.STEP": height 8.43, standoff -2.49, extent -29.21,-2.54 -26.67,0
3D body "PIN_mid.STEP": height 8.43, standoff -2.49, extent -26.67,-2.54 -24.13,0
3D body "PIN_mid.STEP": height 8.43, standoff -2.49, extent -24.13,-2.54 -21.59,0
3D body "PIN_mid.STEP": height 8.43, standoff -2.49, extent -21.59,-2.54 -19.05,0
3D body "PIN_mid.STEP": height 8.43, standoff -2.49, extent -19.05,-2.54 -16.51,0
3D body "PIN_mid.STEP": height 8.43, standoff -2.49, extent -16.51,-2.54 -13.97,0
3D body "PIN_mid.STEP": height 8.43, standoff -2.49, extent -13.97,-2.54 -11.43,0
3D body "PIN_mid.STEP": height 8.43, standoff -2.49, extent -11.43,-2.54 -8.89,0
3D body "PIN_mid.STEP": height 8.43, standoff -2.49, extent -8.89,-2.54 -6.35,0
3D body "PIN_mid.STEP": height 8.43, standoff -2.49, extent -6.35,-2.54 -3.81,0
3D body "PIN_mid.STEP": height 8.43, standoff -2.49, extent -3.81,-2.54 -1.27,0
3D body "PIN_mid.STEP": height 8.43, standoff -2.49, extent -1.27,-2.54 1.27,0
3D body "PIN_mid.STEP": height 8.43, standoff -2.49, extent 1.27,-2.54 3.81,0
3D body "PIN_mid.STEP": height 8.43, standoff -2.49, extent 3.81,-2.54 6.35,0
3D body "PIN_mid.STEP": height 8.43, standoff -2.49, extent 6.35,-2.54 8.89,0
3D body "PIN_mid.STEP": height 8.43, standoff -2.49, extent 8.89,-2.54 11.43,0
3D body "PIN_mid.STEP": height 8.43, standoff -2.49, extent 11.43,-2.54 13.97,0
3D body "PIN_mid.STEP": height 8.43, standoff -2.49, extent 13.97,-2.54 16.51,0
3D body "PIN_mid.STEP": height 8.43, standoff -2.49, extent 16.51,-2.54 19.05,0
3D body "PIN_mid.STEP": height 8.43, standoff -2.49, extent 19.05,-2.54 21.59,0
3D body "PIN_mid.STEP": height 8.43, standoff -2.49, extent 21.59,-2.54 24.13,0
3D body "PIN_mid.STEP": height 8.43, standoff -2.49, extent 24.13,-2.54 26.67,0
3D body "PIN_mid.STEP": height 8.43, standoff -2.49, extent 26.67,-2.54 29.21,0
3D body "PIN.STEP": height 8.43, standoff -2.49, extent -31.75,0 -29.21,2.54
3D body "PIN.STEP": height 8.43, standoff -2.49, extent 29.21,0 31.75,2.54
3D body "PIN.STEP": height 8.43, standoff -2.49, extent 29.21,-2.54 31.75,0

## HDR_M_2X26 [mm] "Male Header 2X26 with 2.54 mm Pitch"
pads (52):
  round 1.4 / inner round 1.4 / far side oval 1.4x2.2 hole 1: 1(-31.75,-1.27) 2(-31.75,1.27) 3(-29.21,-1.27) 4(-29.21,1.27) 5(-26.67,-1.27) 6(-26.67,1.27) 7(-24.13,-1.27) 8(-24.13,1.27) 9(-21.59,-1.27) 10(-21.59,1.27) 11(-19.05,-1.27) 12(-19.05,1.27) 13(-16.51,-1.27) 14(-16.51,1.27) 15(-13.97,-1.27) 16(-13.97,1.27) 17(-11.43,-1.27) 18(-11.43,1.27) 19(-8.89,-1.27) 20(-8.89,1.27) 21(-6.35,-1.27) 22(-6.35,1.27) 23(-3.81,-1.27) 24(-3.81,1.27) 25(-1.27,-1.27) 26(-1.27,1.27) 27(1.27,-1.27) 28(1.27,1.27) 29(3.81,-1.27) 30(3.81,1.27) 31(6.35,-1.27) 32(6.35,1.27) 33(8.89,-1.27) 34(8.89,1.27) 35(11.43,-1.27) 36(11.43,1.27) 37(13.97,-1.27) 38(13.97,1.27) 39(16.51,-1.27) 40(16.51,1.27) 41(19.05,-1.27) 42(19.05,1.27) 43(21.59,-1.27) 44(21.59,1.27) 45(24.13,-1.27) 46(24.13,1.27) 47(26.67,-1.27) 48(26.67,1.27) 49(29.21,-1.27) 50(29.21,1.27) 51(31.75,-1.27) 52(31.75,1.27)
TopOverlay:
  drawing of 184 lines, arcs and shapes, not listed
  text "1" at -31.242,-3.253 h1
  text "2" at -31.242,3.048 h1
  text "2" at -31.242,3.048 h1
  text "1" at -31.242,-3.253 h1
  text "4" at -28.702,3.048 h1
  text "3" at -28.702,-3.682 h1
  text "6" at -26.162,3.048 h1
  text "5" at -26.162,-3.682 h1
  text "8" at -23.622,3.048 h1
  text "7" at -23.622,-3.682 h1
  text "10" at -21.082,3.048 h1
  text "9" at -21.082,-3.634 h1
  text "12" at -18.542,3.048 h1
  text "11" at -18.542,-3.986 h1
  text "14" at -16.002,3.048 h1
  text "13" at -16.002,-4.415 h1
  text "16" at -13.462,3.048 h1
  text "15" at -13.462,-4.415 h1
  text "18" at -10.922,3.048 h1
  text "17" at -10.922,-4.415 h1
  text "20" at -8.382,3.048 h1
  text "19" at -8.382,-4.367 h1
  text "22" at -5.842,3.048 h1
  text "21" at -5.842,-4.144 h1
  text "24" at -3.302,3.048 h1
  text "23" at -3.302,-4.572 h1
  text "26" at -0.762,3.048 h1
  text "25" at -0.762,-4.572 h1
  text "28" at 1.778,3.048 h1
  text "27" at 1.778,-4.572 h1
  text "30" at 4.318,3.048 h1
  text "29" at 4.318,-4.524 h1
  text "32" at 6.858,3.048 h1
  text "31" at 6.858,-4.144 h1
  text "34" at 9.398,3.048 h1
  text "33" at 9.398,-4.572 h1
  text "36" at 11.938,3.048 h1
  text "35" at 11.938,-4.572 h1
  text "38" at 14.478,3.048 h1
  text "37" at 14.478,-4.572 h1
  text "40" at 17.018,3.048 h1
  text "39" at 17.018,-4.524 h1
  text "42" at 19.558,3.048 h1
  text "41" at 19.558,-4.144 h1
  text "44" at 22.098,3.048 h1
  text "43" at 22.098,-4.572 h1
  text "46" at 24.638,3.048 h1
  text "45" at 24.638,-4.572 h1
  text "48" at 27.178,3.048 h1
  text "47" at 27.178,-4.572 h1
  text "50" at 29.718,3.048 h1
  text "49" at 29.718,-4.524 h1
  text "52" at 32.258,3.048 h1
  text "51" at 32.258,-4.144 h1
3D body "PIN.STEP": height 8.43, standoff -2.49, extent -33.02,-2.54 -30.48,0
3D body "PIN_mid.STEP": height 8.43, standoff -2.49, extent -27.94,0 -25.4,2.54
3D body "PIN_mid.STEP": height 8.43, standoff -2.49, extent -25.4,0 -22.86,2.54
3D body "PIN_mid.STEP": height 8.43, standoff -2.49, extent -22.86,0 -20.32,2.54
3D body "PIN_mid.STEP": height 8.43, standoff -2.49, extent -20.32,0 -17.78,2.54
3D body "PIN_mid.STEP": height 8.43, standoff -2.49, extent -17.78,0 -15.24,2.54
3D body "PIN_mid.STEP": height 8.43, standoff -2.49, extent -15.24,0 -12.7,2.54
3D body "PIN_mid.STEP": height 8.43, standoff -2.49, extent -12.7,0 -10.16,2.54
3D body "PIN_mid.STEP": height 8.43, standoff -2.49, extent -10.16,0 -7.62,2.54
3D body "PIN_mid.STEP": height 8.43, standoff -2.49, extent -7.62,0 -5.08,2.54
3D body "PIN_mid.STEP": height 8.43, standoff -2.49, extent -5.08,0 -2.54,2.54
3D body "PIN_mid.STEP": height 8.43, standoff -2.49, extent -2.54,0 0,2.54
3D body "PIN_mid.STEP": height 8.43, standoff -2.49, extent 0,0 2.54,2.54
3D body "PIN_mid.STEP": height 8.43, standoff -2.49, extent 2.54,0 5.08,2.54
3D body "PIN_mid.STEP": height 8.43, standoff -2.49, extent 5.08,0 7.62,2.54
3D body "PIN_mid.STEP": height 8.43, standoff -2.49, extent 7.62,0 10.16,2.54
3D body "PIN_mid.STEP": height 8.43, standoff -2.49, extent 10.16,0 12.7,2.54
3D body "PIN_mid.STEP": height 8.43, standoff -2.49, extent 12.7,0 15.24,2.54
3D body "PIN_mid.STEP": height 8.43, standoff -2.49, extent 15.24,0 17.78,2.54
3D body "PIN_mid.STEP": height 8.43, standoff -2.49, extent 17.78,0 20.32,2.54
3D body "PIN_mid.STEP": height 8.43, standoff -2.49, extent 20.32,0 22.86,2.54
3D body "PIN_mid.STEP": height 8.43, standoff -2.49, extent 22.86,0 25.4,2.54
3D body "PIN_mid.STEP": height 8.43, standoff -2.49, extent 25.4,0 27.94,2.54
3D body "PIN_mid.STEP": height 8.43, standoff -2.49, extent 27.94,0 30.48,2.54
3D body "PIN_mid.STEP": height 8.43, standoff -2.49, extent -30.48,0 -27.94,2.54
3D body "PIN_mid.STEP": height 8.43, standoff -2.49, extent -30.48,-2.54 -27.94,0
3D body "PIN_mid.STEP": height 8.43, standoff -2.49, extent -27.94,-2.54 -25.4,0
3D body "PIN_mid.STEP": height 8.43, standoff -2.49, extent -25.4,-2.54 -22.86,0
3D body "PIN_mid.STEP": height 8.43, standoff -2.49, extent -22.86,-2.54 -20.32,0
3D body "PIN_mid.STEP": height 8.43, standoff -2.49, extent -20.32,-2.54 -17.78,0
3D body "PIN_mid.STEP": height 8.43, standoff -2.49, extent -17.78,-2.54 -15.24,0
3D body "PIN_mid.STEP": height 8.43, standoff -2.49, extent -15.24,-2.54 -12.7,0
3D body "PIN_mid.STEP": height 8.43, standoff -2.49, extent -12.7,-2.54 -10.16,0
3D body "PIN_mid.STEP": height 8.43, standoff -2.49, extent -10.16,-2.54 -7.62,0
3D body "PIN_mid.STEP": height 8.43, standoff -2.49, extent -7.62,-2.54 -5.08,0
3D body "PIN_mid.STEP": height 8.43, standoff -2.49, extent -5.08,-2.54 -2.54,0
3D body "PIN_mid.STEP": height 8.43, standoff -2.49, extent -2.54,-2.54 0,0
3D body "PIN_mid.STEP": height 8.43, standoff -2.49, extent 0,-2.54 2.54,0
3D body "PIN_mid.STEP": height 8.43, standoff -2.49, extent 2.54,-2.54 5.08,0
3D body "PIN_mid.STEP": height 8.43, standoff -2.49, extent 5.08,-2.54 7.62,0
3D body "PIN_mid.STEP": height 8.43, standoff -2.49, extent 7.62,-2.54 10.16,0
3D body "PIN_mid.STEP": height 8.43, standoff -2.49, extent 10.16,-2.54 12.7,0
3D body "PIN_mid.STEP": height 8.43, standoff -2.49, extent 12.7,-2.54 15.24,0
3D body "PIN_mid.STEP": height 8.43, standoff -2.49, extent 15.24,-2.54 17.78,0
3D body "PIN_mid.STEP": height 8.43, standoff -2.49, extent 17.78,-2.54 20.32,0
3D body "PIN_mid.STEP": height 8.43, standoff -2.49, extent 20.32,-2.54 22.86,0
3D body "PIN_mid.STEP": height 8.43, standoff -2.49, extent 22.86,-2.54 25.4,0
3D body "PIN_mid.STEP": height 8.43, standoff -2.49, extent 25.4,-2.54 27.94,0
3D body "PIN_mid.STEP": height 8.43, standoff -2.49, extent 27.94,-2.54 30.48,0
3D body "PIN.STEP": height 8.43, standoff -2.49, extent -33.02,0 -30.48,2.54
3D body "PIN.STEP": height 8.43, standoff -2.49, extent 30.48,0 33.02,2.54
3D body "PIN.STEP": height 8.43, standoff -2.49, extent 30.48,-2.54 33.02,0